# Altium footprint library flex-bite.PcbLib: 1 footprints
Each footprint in its own frame and in the unit in brackets; x right, y up, seen from the top. Pads: shape width x height; smd on the part's side, far side on the other; paste and mask are expansions set on the pad; w line width, h text height; cw(c..) or ccw(c..) is an arc to the next point about the centre after c.
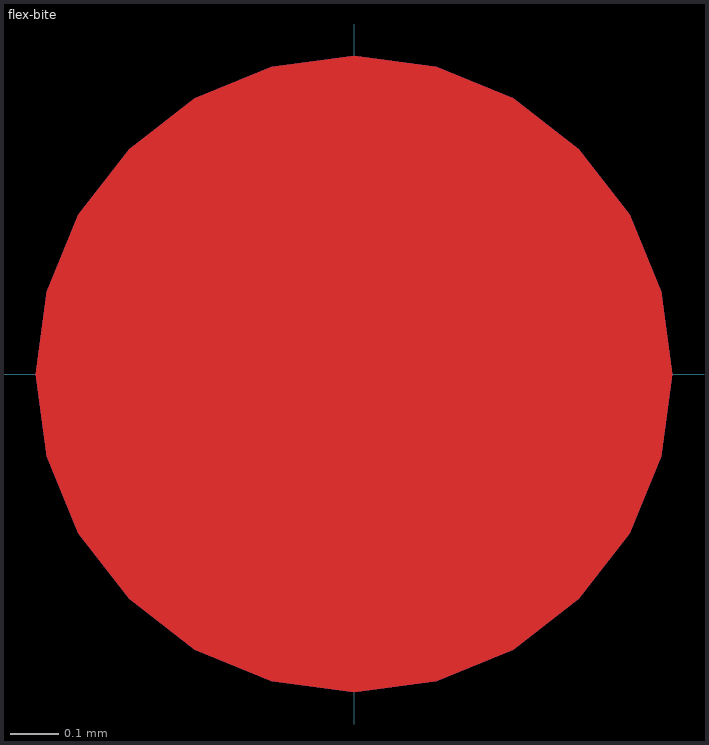
[diagram p0: the footprint, top view; thin cyan lines are the x and y axes]

## flex-bite [mm]
Top Layer:
  pour cut-out: 0,-0.656 -0.17,-0.633 -0.328,-0.568 -0.464,-0.464 -0.568,-0.328 -0.633,-0.17 -0.656,0 -0.633,0.17 -0.568,0.328 -0.464,0.464 -0.328,0.568 -0.17,0.633 0,0.656 0.17,0.633 0.328,0.568 0.464,0.464 0.568,0.328 0.633,0.17 0.656,0 0.633,-0.17 0.568,-0.328 0.464,-0.464 0.328,-0.568 0.17,-0.633
Bottom Layer:
  pour cut-out: 0,-0.656 -0.17,-0.633 -0.328,-0.568 -0.464,-0.464 -0.568,-0.328 -0.633,-0.17 -0.656,0 -0.633,0.17 -0.568,0.328 -0.464,0.464 -0.328,0.568 -0.17,0.633 0,0.656 0.17,0.633 0.328,0.568 0.464,0.464 0.568,0.328 0.633,0.17 0.656,0 0.633,-0.17 0.568,-0.328 0.464,-0.464 0.328,-0.568 0.17,-0.633
Top Solder:
  region: 0,-0.656 -0.17,-0.633 -0.328,-0.568 -0.464,-0.464 -0.568,-0.328 -0.633,-0.17 -0.656,0 -0.633,0.17 -0.568,0.328 -0.464,0.464 -0.328,0.568 -0.17,0.633 0,0.656 0.17,0.633 0.328,0.568 0.464,0.464 0.568,0.328 0.633,0.17 0.656,0 0.633,-0.17 0.568,-0.328 0.464,-0.464 0.328,-0.568 0.17,-0.633
Bottom Solder:
  region: 0,-0.656 -0.17,-0.633 -0.328,-0.568 -0.464,-0.464 -0.568,-0.328 -0.633,-0.17 -0.656,0 -0.633,0.17 -0.568,0.328 -0.464,0.464 -0.328,0.568 -0.17,0.633 0,0.656 0.17,0.633 0.328,0.568 0.464,0.464 0.568,0.328 0.633,0.17 0.656,0 0.633,-0.17 0.568,-0.328 0.464,-0.464 0.328,-0.568 0.17,-0.633